# EAGLE library part ATMEGA_328_28PIN_VQFN (library miller)
ATMEGA328P 28-pin VQFN package The 28-pin package lacks ADC6 and ADC7 pins
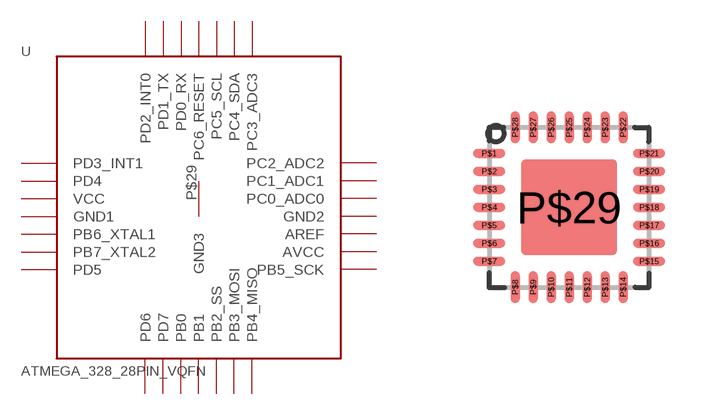
[diagram p29: symbol with the pads of VQFN28; footprint VQFN28]

Designator prefix -

## ATMEGA_328_28PIN_VQFN  [VQFN28]
P$1  PD3_INT1
P$2  PD4
P$3  VCC
P$4  GND1
P$5  PB6_XTAL1
P$6  PB7_XTAL2
P$7  PD5
P$8  PD6
P$9  PD7
P$10  PB0
P$11  PB1
P$12  PB2_SS
P$13  PB3_MOSI
P$14  PB4_MISO
P$15  PB5_SCK
P$16  AVCC
P$17  AREF
P$18  GND2
P$19  PC0_ADC0
P$20  PC1_ADC1
P$21  PC2_ADC2
P$22  PC3_ADC3
P$23  PC4_SDA
P$24  PC5_SCL
P$25  PC6_RESET
P$26  PD0_RX
P$27  PD1_TX
P$28  PD2_INT0
P$29  GND3

## Footprint VQFN28 (pad centres in mm)
28-pin Very Thin Quad Flat No Lead Package (VQFN) 4 x 4 x 1.0mm Body, lead pitch 0.45mm, 2.4 x 2.4 mm exposed pad Labeled for ATMEGA328P
smd 0.8 x 0.22: P$1 -2,1.35; P$2 -2,0.9; P$3 -2,0.45; P$4 -2,0; P$5 -2,-0.45; P$6 -2,-0.9; P$7 -2,-1.35; P$15 2,-1.35; P$16 2,-0.9; P$17 2,-0.45; P$18 2,0; P$19 2,0.45; P$20 2,0.9; P$21 2,1.35
smd 0.22 x 0.8: P$8 -1.35,-2; P$9 -0.9,-2; P$10 -0.45,-2; P$11 0,-2; P$12 0.45,-2; P$13 0.9,-2; P$14 1.35,-2; P$22 1.35,2; P$23 0.9,2; P$24 0.45,2; P$25 0,2; P$26 -0.45,2; P$27 -0.9,2; P$28 -1.35,2
smd 2.4 x 2.4: P$29 0,0